# EAGLE library part 057-006- (library 1A-meinLib)
CONNECTOR 6-pin series 057 contact pc board low profile headers
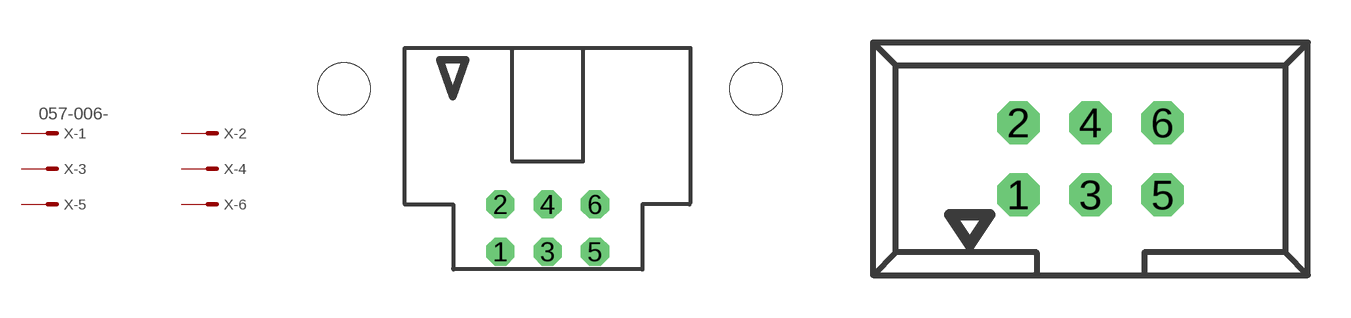
[diagram p385: symbol with the pads of 057-006-0; footprints 057-006-0, 057-006-1]

Designator prefix X; gates -1=MV-1 -2=M-5 -3=M-5 -4=M-5 -5=M-5 -6=M-5

## 057-006-0  [057-006-0]
1  -1:S  pas
2  -2:S  pas
3  -3:S  pas
4  -4:S  pas
5  -5:S  pas
6  -6:S  pas

## 057-006-1  [057-006-1]
Pads as for 057-006-0

## Footprint 057-006-0 (pad centres in mm)
CONNECTOR series 057 contact pc board low profile headers angled
drill 1 octagon: 1 -2.54,-5.08; 2 -2.54,-2.54; 3 0,-5.08; 4 0,-2.54; 5 2.54,-5.08; 6 2.54,-2.54
hole 2.8 at -10.94,3.66
hole 2.8 at 11.19,3.66

## Footprint 057-006-1 (pad centres in mm)
CONNECTOR series 057 contact pc board low profile headers straight
drill 1 octagon: 1 -2.54,-1.27; 2 -2.54,1.27; 3 0,-1.27; 4 0,1.27; 5 2.54,-1.27; 6 2.54,1.27